# Altium schematic symbol library Resistor.SchLib: 2 symbols
Pins are listed as number, name and electrical type; pins without a type are passive.

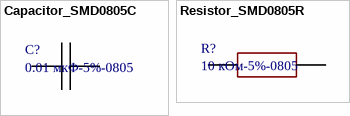
[diagram p0: symbols Capacitor_SMD0805C to Resistor_SMD0805R]

## Capacitor_SMD0805C
designator C?, comment 0.01 мкФ-5%-0805
Manufacturer: *; Href: *; PartNumber: *
pins: 0, 1

## Resistor_SMD0805R
designator R?, comment 10 кОм-5%-0805
Manufacturer: *; Href: *; PartNumber: *
pins: 0, 1